# Altium schematic symbol library TI_National_Semiconductor_LP38511TJ_ADJ_NOPB.SchLib: 1 symbol
Pins are listed as number, name and electrical type; pins without a type are passive.

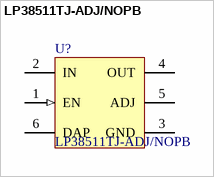
[diagram p0: symbol LP38511TJ-ADJ/NOPB]

## LP38511TJ-ADJ/NOPB
designator U?
800mA Fast-Transient Response Adjustable Low-Dropout Linear Voltage Regulator, 5-pin TO-263 Thin, Pb-Free; Manufacturer: National Semiconductor; PackageTopMarking: NSUZXYTTE#*LP38511*TJ-ADJ; PowerWise: N; CompType: LDO IC; DatasheetVersion: Feb-2009; PinCount: 5; PackageVersion: revE, Jan-2008; PackageReference: TJ5A; PackageDescription: Thin TO-263, Molded, 9.85 x 10.16 x 2mm Body, 5 Lead, 1.7mm Pitch, Surface Mount; RoHS: Y; PartNumber: LP38511TJ-ADJ/NOPB
footprint TJ5A_L
footprint TJ5A_N
footprint TJ5A_M
pins: 1 EN (in), 2 IN (power), 3 GND (power), 4 OUT (power), 5 ADJ, 6 DAP (power)